# EAGLE library part ILD217T (library _mtvl.optocoupler)
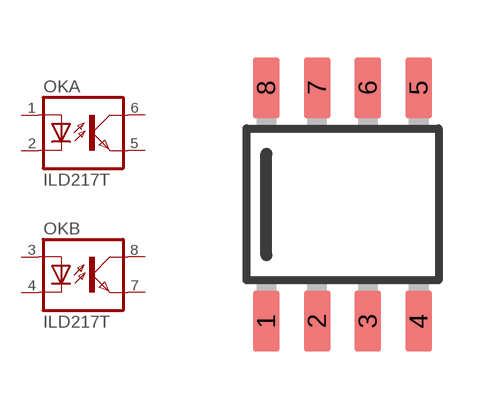
[diagram p3: symbol with the pads of SOIC8; footprint SOIC8]

Designator prefix OK; gates A=OK B=OK

## ILD217T  [SOIC8]
1  A:A  pas
2  A:C  pas
3  B:A  pas
4  B:C  pas
5  A:EMIT  pas
6  A:COL  pas
7  B:EMIT  pas
8  B:COL  pas

## Footprint SOIC8 (pad centres in mm)
Small Outline Package 8
smd 0.66 x 1.524: 1 -1.905,-2.921; 2 -0.635,-2.921; 3 0.635,-2.921; 4 1.905,-2.921; 5 1.905,2.921; 6 0.635,2.921; 7 -0.635,2.921; 8 -1.905,2.921